# Altium schematic symbol library sniffer.SchLib: 12 symbols
Pins are listed as number, name and electrical type; pins without a type are passive.

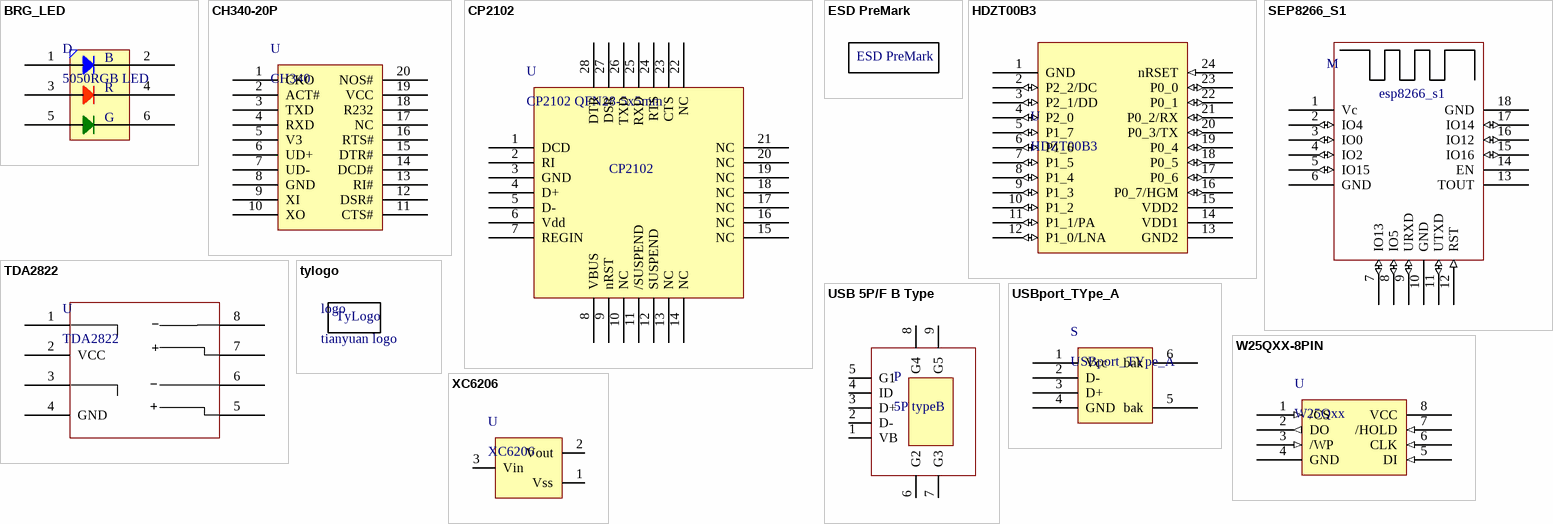
[diagram p0: symbols BRG_LED to XC6206]

## BRG_LED
designator D, comment 5050RGB LED
footprint LED RGB5050 (RGB LED 5x5mm)
pins: 1 B_A, 2 B_K, 3 R_A, 4 R_K, 5 G_A, 6 G_K
1 alternate drawing of the same symbol
text: B; R; G

## CH340-20P
designator U, comment CH340
USB-UART
footprint SOP65P780X173-20N (SOP, 20-Leads, Body 7.20x5.30mm, Pitch 0.65mm, IPC Medium Density)
pins: 1 CKO, 2 ACT#, 3 TXD, 4 RXD, 5 V3, 6 UD+, 7 UD-, 8 GND, 9 XI, 10 XO, 11 CTS#, 12 DSR#, 13 RI#, 14 DCD#, 15 DTR#, 16 RTS#, 17 NC, 18 R232, 19 VCC, 20 NOS#

## CP2102
designator U, comment CP2102 QFN28-5x5mm
footprint QFN28-5x5mm (QFN, 28-Leads, Body 5.00x5.00mm, Pitch 0.50mm, Thermal Pad 2.95x2.95mm, IPC Medium Density)
pins: 1 DCD, 2 RI, 3 GND, 4 D+, 5 D-, 6 Vdd, 7 REGIN, 8 VBUS, 9 nRST, 10 NC, 11 /SUSPEND, 12 SUSPEND, 13 NC, 14 NC, 15 NC, 16 NC, 17 NC, 18 NC, 19 NC, 20 NC, 21 NC, 22 NC, 23 CTS, 24 RTS, 25 RXD, 26 TXD, 27 DSR, 28 DTR

## ESD PreMark
designator Logo, comment ESD protect mark  (value not drawn)
footprint ESD_MARK

## HDZT00B3
designator U
SMD24_2_127
footprint SON127P1520X180-24N (SON, 24-Leads, Body 25.25x15.25mm, Pitch 1.27mm, IPC Medium Density)
pins: 1 GND (power), 2 P2_2/DC (io), 3 P2_1/DD (io), 4 P2_0 (io), 5 P1_7 (io), 6 P1_6 (io), 7 P1_5 (io), 8 P1_4 (io), 9 P1_3 (io), 10 P1_2 (io), 11 P1_1/PA (io), 12 P1_0/LNA (io), 13 GND2 (power), 14 VDD1 (power), 15 VDD2 (power), 16 P0_7/HGM (io), 17 P0_6 (io), 18 P0_5 (io), 19 P0_4 (io), 20 P0_3/TX (io), 21 P0_2/RX (io), 22 P0_1 (io), 23 P0_0 (io), 24 nRSET (in)

## SEP8266_S1
designator M, comment esp8266-s1  (value not drawn)
footprint ESP8266_S1
pins: 1 Vc (power), 2 IO4 (io), 3 IO0 (io), 4 IO2 (io), 5 IO15 (io), 6 GND (power), 7 IO13 (io), 8 IO5 (io), 9 URXD (io), 10 GND (power), 11 UTXD (io), 12 RST (in), 13 TOUT, 14 EN, 15 IO16 (io), 16 IO12 (io), 17 IO14 (io), 18 GND (power)
text: esp8266_s1

## TDA2822
designator U
footprint AD8058 (SOP, 8-Leads, Body 5.0x4.0mm (max), Pitch 1.27mm, IPC Medium Density)
pins: 1 OUT1, 2 VCC, 3 OUT2, 4 GND, 5 IN1-, 6 IN1+, 7 IN2+, 8 IN2-

## tylogo
designator logo, comment tianyuan logo
footprint tianyuanlogo
text: TyLogo

## USB 5P/F B Type
designator P, comment 5P typeB
Micro or Mini
footprint Micro usb 5P/FB Type dip
pins: 1 VB, 2 D-, 3 D+, 4 ID, 5 G1, 6 G2, 7 G3, 8 G4, 9 G5

## USBport_TYpe_A
designator S
footprint USB_typeA
pins: 1 Vcc, 2 D-, 3 D+, 4 GND, 5 bak, 6 bak

## W25QXX-8PIN
designator U, comment W25Qxx
W25Q40.W25Q80
footprint AD8058 (SOP, 8-Leads, Body 5.0x4.0mm (max), Pitch 1.27mm, IPC Medium Density)
pins: 1 /CS (in), 2 DO (out), 3 /WP (in), 4 GND (power), 5 DI (in), 6 CLK (in), 7 /HOLD (in), 8 VCC

## XC6206
designator U
sot23-250mA(5.0v type)
pins: 1 Vss, 2 Vout, 3 Vin